# EAGLE library part MPQ3904 (library 6301-temp-sensor-rev1)
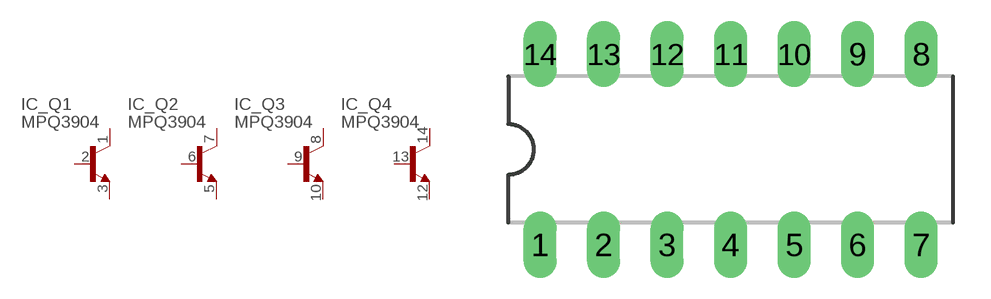
[diagram p0: symbol with the pads of DIL14; footprint DIL14]

Designator prefix IC; gates _Q1=NPN _Q2=NPN _Q3=NPN _Q4=NPN

## MPQ3904 (VALUE: MPQ3904)  [DIL14]
1  _Q1:C  pas
2  _Q1:B  pas
3  _Q1:E  pas
5  _Q2:E  pas
6  _Q2:B  pas
7  _Q2:C  pas
8  _Q3:C  pas
9  _Q3:B  pas
10  _Q3:E  pas
12  _Q4:E  pas
13  _Q4:B  pas
14  _Q4:C  pas

## Footprint DIL14 (pad centres in mm)
Dual In Line Package
drill 0.813 long: 1 -7.62,-3.81; 2 -5.08,-3.81; 3 -2.54,-3.81; 4 0,-3.81; 5 2.54,-3.81; 6 5.08,-3.81; 7 7.62,-3.81; 8 7.62,3.81; 9 5.08,3.81; 10 2.54,3.81; 11 0,3.81; 12 -2.54,3.81; 13 -5.08,3.81; 14 -7.62,3.81